# EAGLE library part ATMEGA328-ARDUINO (library arno)
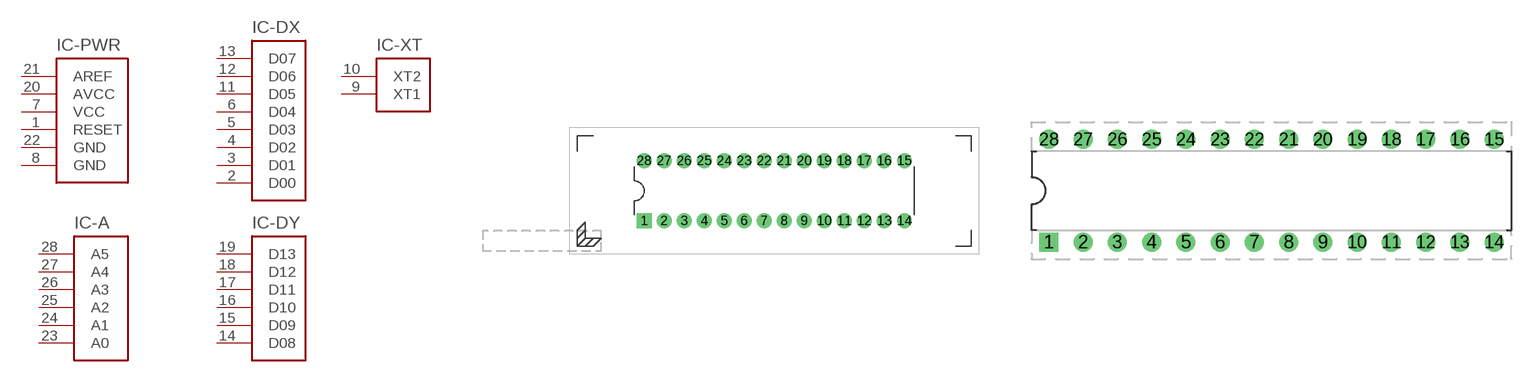
[diagram p3: symbol with the pads of SOCKET-DIL28-ZIF; footprints SOCKET-DIL28-ZIF, SOCKET-DIL28-3]

Designator prefix IC; gates -DX=PIN-ARD-DIGI0007 -A=PIN-ARD-ANALOG -DY=PIN-ARD-DIGI0813 -PWR=PIN-ATM-POWER -XT=PIN-ATM-XTAL

## ATMEGA328-ARDUINOZIF  [SOCKET-DIL28-ZIF]
1  -PWR:RESET
2  -DX:D00
3  -DX:D01
4  -DX:D02
5  -DX:D03
6  -DX:D04
7  -PWR:VCC
8  -PWR:GND
9  -XT:XT1
10  -XT:XT2
11  -DX:D05
12  -DX:D06
13  -DX:D07
14  -DY:D08
15  -DY:D09
16  -DY:D10
17  -DY:D11
18  -DY:D12
19  -DY:D13
20  -PWR:AVCC
21  -PWR:AREF
22  -PWR:GND
23  -A:A0
24  -A:A1
25  -A:A2
26  -A:A3
27  -A:A4
28  -A:A5

## ATMEGA328-ARDUINODIL  [SOCKET-DIL28-3]
Pads as for SOCKET-DIL28-ZIF

## Footprint SOCKET-DIL28-ZIF (pad centres in mm)
drill 1.016 pad 1.88 square: 1 -16.51,-3.81
drill 1.016 pad 1.88: 2 -13.97,-3.81; 3 -11.43,-3.81; 4 -8.89,-3.81; 5 -6.35,-3.81; 6 -3.81,-3.81; 7 -1.27,-3.81; 8 1.27,-3.81; 9 3.81,-3.81; 10 6.35,-3.81; 11 8.89,-3.81; 12 11.43,-3.81; 13 13.97,-3.81; 14 16.51,-3.81; 15 16.51,3.81; 16 13.97,3.81; 17 11.43,3.81; 18 8.89,3.81; 19 6.35,3.81; 20 3.81,3.81; 21 1.27,3.81; 22 -1.27,3.81; 23 -3.81,3.81; 24 -6.35,3.81; 25 -8.89,3.81; 26 -11.43,3.81; 27 -13.97,3.81; 28 -16.51,3.81

## Footprint SOCKET-DIL28-3 (pad centres in mm)
drill 0.813 pad 1.422 square: 1 -16.51,-3.81
drill 0.813 pad 1.422: 2 -13.97,-3.81; 3 -11.43,-3.81; 4 -8.89,-3.81; 5 -6.35,-3.81; 6 -3.81,-3.81; 7 -1.27,-3.81; 8 1.27,-3.81; 9 3.81,-3.81; 10 6.35,-3.81; 11 8.89,-3.81; 12 11.43,-3.81; 13 13.97,-3.81; 14 16.51,-3.81; 15 16.51,3.81; 16 13.97,3.81; 17 11.43,3.81; 18 8.89,3.81; 19 6.35,3.81; 20 3.81,3.81; 21 1.27,3.81; 22 -1.27,3.81; 23 -3.81,3.81; 24 -6.35,3.81; 25 -8.89,3.81; 26 -11.43,3.81; 27 -13.97,3.81; 28 -16.51,3.81